# EAGLE library part KCD?56 (library display-kingbright-2)
SURFACE MOUNT DISPLAY : 2 X 7 SEGM 0.56 inch (14.22mm), Gray Face, White Segment Source: http://www.kingbright.com/manager/upload/pdf/KCDA56-105%28Ver1292901747.10%29
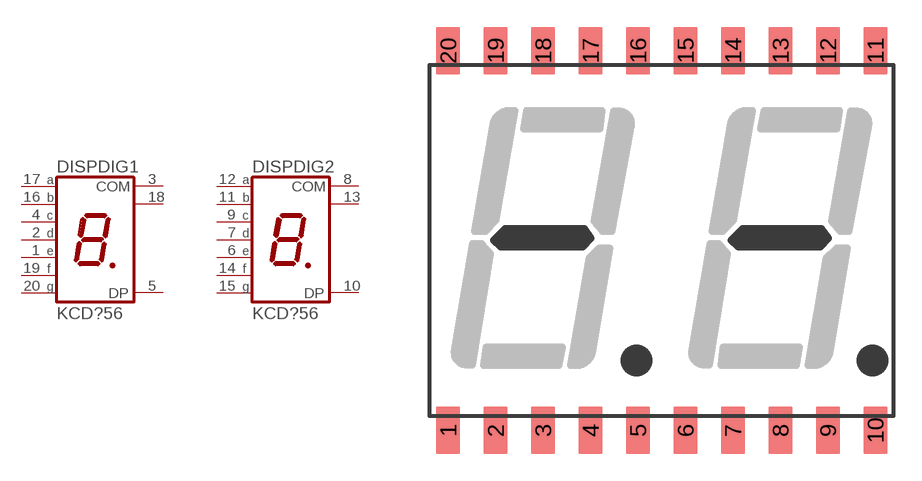
[diagram p9: symbol with the pads of KCDA56; footprint KCDA56]

Designator prefix DISP; gates DIG1=7SEG-LED-COM2 DIG2=7SEG-LED-COM2

## KCDA56-105 (COLOR: Hyper Red), KCDA56-106 (COLOR: Super Bright Orange), KCDA56-107 (COLOR: Super Bright Yellow), KCDA56-123 (COLOR: Green), KCDA56-131 (COLOR: Blue)  [KCDA56]
1  DIG1:E  pas
2  DIG1:D  pas
3  DIG1:COM  pas
4  DIG1:C  pas
5  DIG1:DP  pas
6  DIG2:E  pas
7  DIG2:D  pas
8  DIG2:COM  pas
9  DIG2:C  pas
10  DIG2:DP  pas
11  DIG2:B  pas
12  DIG2:A  pas
13  DIG2:COM  pas
14  DIG2:F  pas
15  DIG2:G  pas
16  DIG1:B  pas
17  DIG1:A  pas
18  DIG1:COM  pas
19  DIG1:F  pas
20  DIG1:G  pas

## KCDC56-105 (COLOR: Hyper red), KCDC56-106 (COLOR: Super Bright Orange), KCDC56-107 (COLOR: Super Bright Yellow), KCDC56-123 (COLOR: Green), KCDC56-131 (COLOR: Blue)  [KCDA56]
1  DIG1:E  pas
2  DIG1:D  pas
3  DIG1:COM  pas
4  DIG1:C  pas
5  DIG1:DP  pas
6  DIG2:E  pas
7  DIG2:D  pas
8  DIG2:COM  pas
9  DIG2:C  pas
10  DIG2:DP  pas
11  DIG2:B  pas
12  DIG2:A  pas
13  DIG2:COM  pas
14  DIG2:F  pas
15  DIG2:G  pas
16  DIG1:B  pas
17  DIG1:A  pas
18  DIG1:COM  pas
19  DIG1:F  pas
20  DIG1:G  pas

## Footprint KCDA56 (pad centres in mm)
smd 1.27 x 2.54: 1 -11.43,-10.16; 2 -8.89,-10.16; 3 -6.35,-10.16; 4 -3.81,-10.16; 5 -1.27,-10.16; 6 1.27,-10.16; 7 3.81,-10.16; 8 6.35,-10.16; 9 8.89,-10.16; 10 11.43,-10.16; 11 11.43,10.16; 12 8.89,10.16; 13 6.35,10.16; 14 3.81,10.16; 15 1.27,10.16; 16 -1.27,10.16; 17 -3.81,10.16; 18 -6.35,10.16; 19 -8.89,10.16; 20 -11.43,10.16